# Altium footprint library 杂项库.PcbLib: 585 footprints (part 9 of 37)
Each footprint in its own frame and in the unit in brackets; x right, y up, seen from the top. Pads: shape width x height; smd on the part's side, far side on the other; paste and mask are expansions set on the pad; w line width, h text height; cw(c..) or ccw(c..) is an arc to the next point about the centre after c.
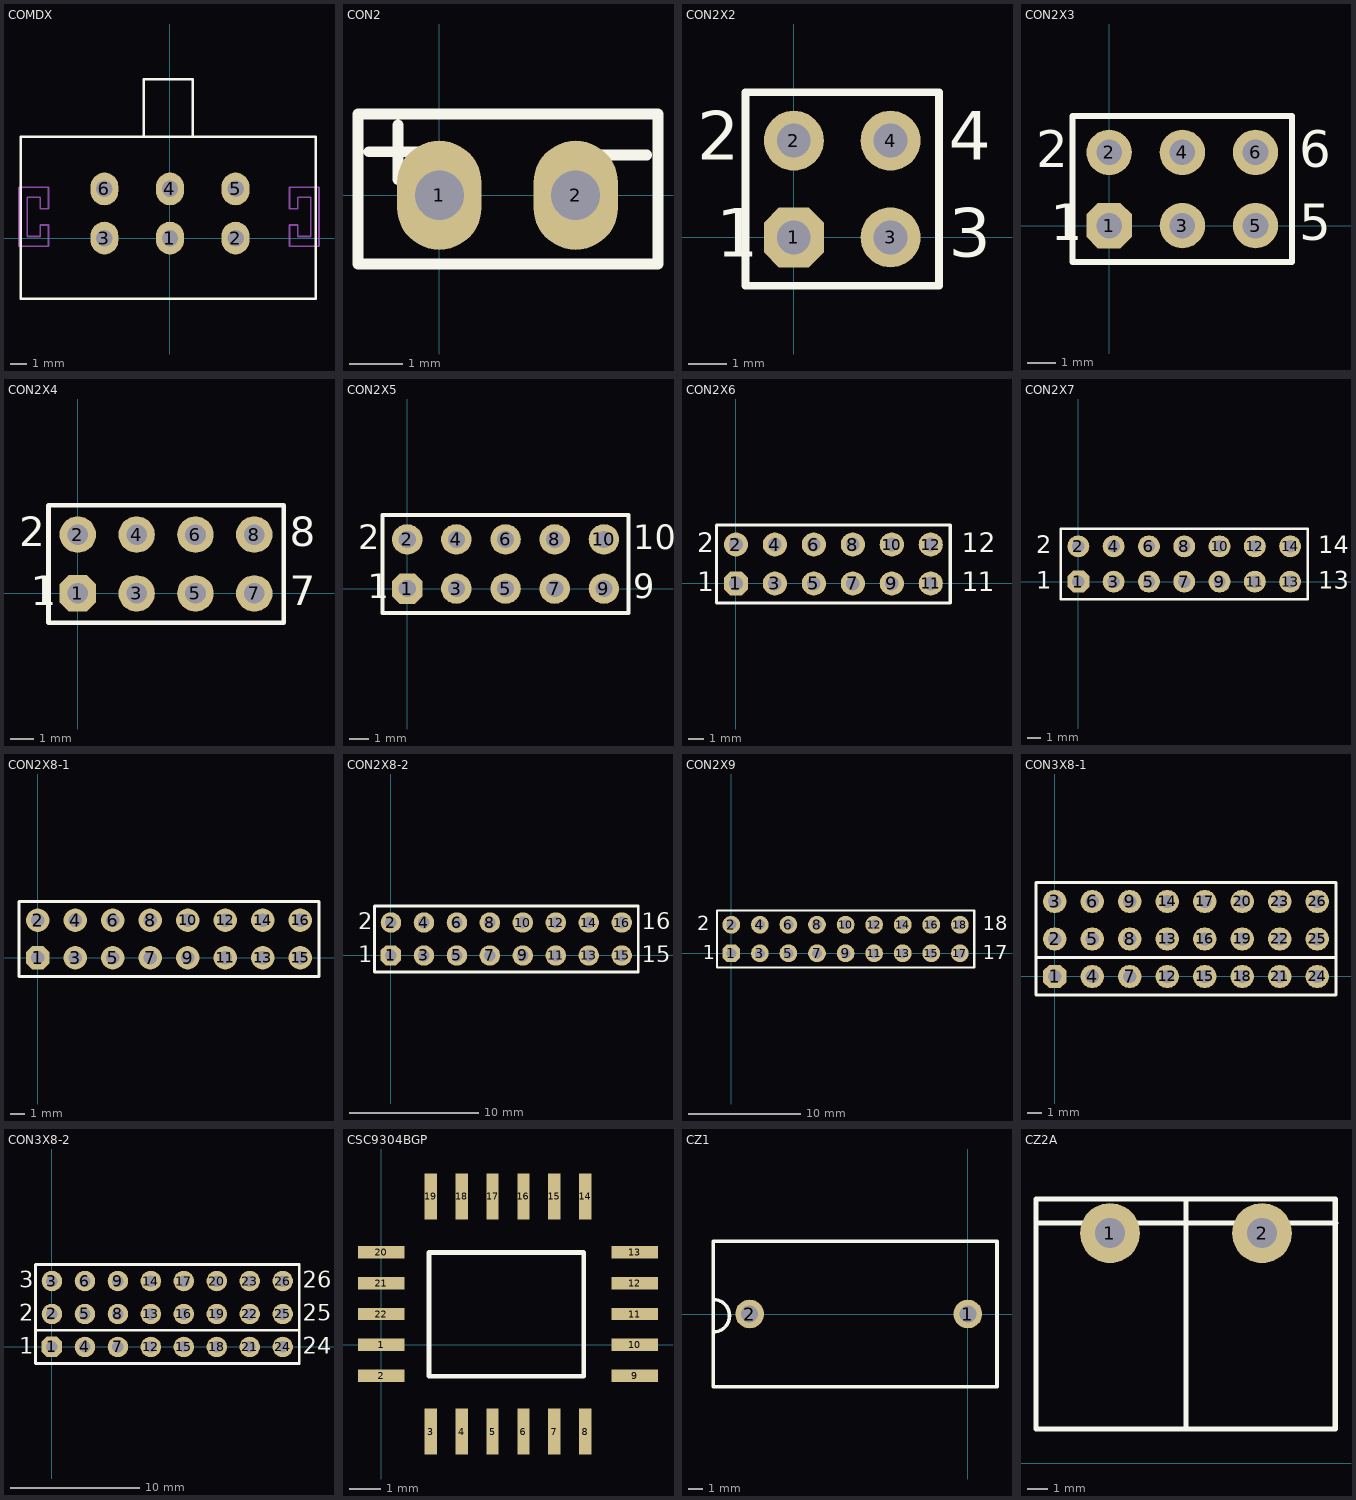
[diagram p8: the footprints below, top view; thin cyan lines are the x and y axes]

## COMDX [mm]
pads (6):
  oval 1.7x2 hole 1: 1(0,0) 2(4,0) 3(-4,0) 4(0,3) 5(4,3) 6(-4,3)
Top Overlay:
  lines w0.15: -1.61,6.196 -1.61,9.696 1.39,9.696 1.39,6.196 ; -9.11,-3.704 8.89,-3.704 8.89,6.196 -9.11,6.196 -9.11,-3.704
Mechanical 1:
  lines w0.1: -9.21,-0.504 -7.41,-0.504 -7.41,0.796 -7.91,0.796 -7.91,0.096 -8.71,0.096 -8.71,2.496 -7.91,2.496 -7.91,1.796 -7.41,1.796 -7.41,3.096 -9.21,3.096 -9.21,-0.504 ; 7.29,-0.504 9.09,-0.504 9.09,3.096 7.29,3.096 7.29,1.796 7.79,1.796 7.79,2.496 8.59,2.496 8.59,0.096 7.79,0.096 7.79,0.796 7.29,0.796 7.29,-0.504

## CON2 [mil]
pads (2):
  oval 62x80 hole 36: 1(0,0) 2(100,0)
Top Overlay:
  lines w7.87: -51.61,31.87 -11.61,31.87 ; -30.35,11.55 -30.35,51.55 ; 112.17,29.58 152.16,29.58 ; -59.65,-50.42 160.35,-50.42 160.35,59.58 -59.65,59.58 -59.65,-50.42

## CON2X2 [mil]
pads (4):
  oct 62x62 hole 35: 1(0,0)
  round 62 hole 35: 2(0,100) 3(100,0) 4(100,100)
Top Overlay:
  lines w8: -50,-50 150,-50 150,150 -50,150 -50,-50
  text "3" at 160,-20 h50
  text "4" at 160,80 h50
  text "2" at -100,80 h50
  text "1" at -80,-20 h50

## CON2X3 [mil]
pads (6):
  oct 62x62 hole 35: 1(0,0)
  round 62 hole 35: 2(0,100) 3(100,0) 4(100,100) 5(200,0) 6(200,100)
Top Overlay:
  lines w8: 58.33,-50 250,-50 ; 250,-50 -50,-50 -50,150 250,150 250,-50
  text "1" at -80,-20 h50
  text "2" at -100,80 h50
  text "5" at 260,-20 h50
  text "6" at 260,80 h50

## CON2X4 [mil]
pads (8):
  oct 62x62 hole 35: 1(0,0)
  round 62 hole 35: 2(0,100) 3(100,0) 4(100,100) 5(200,0) 6(200,100) 7(300,0) 8(300,100)
Top Overlay:
  lines w8: -50,-50 -50,150 350,150 350,-50 -50,-50
  text "8" at 360,80 h50
  text "7" at 360,-20 h50
  text "1" at -80,-20 h50
  text "2" at -100,80 h50

## CON2X5 [mil]
pads (10):
  oct 62x62 hole 35: 1(0,0)
  round 62 hole 35: 2(0,100) 3(100,0) 4(100,100) 5(200,0) 6(200,100) 7(300,0) 8(300,100) 9(400,0) 10(400,100)
Top Overlay:
  lines w8: -50,-50 -50,150 450,150 450,-50 -50,-50
  text "2" at -100,80 h50
  text "1" at -80,-20 h50
  text "9" at 460,-20 h50
  text "10" at 460,80 h50

## CON2X6 [mil]
pads (12):
  oct 62x62 hole 35: 1(0,0)
  round 62 hole 35: 2(0,100) 3(100,0) 4(100,100) 5(200,0) 6(200,100) 7(300,0) 8(300,100) 9(400,0) 10(400,100) 11(500,0) 12(500,100)
Top Overlay:
  lines w8: -50,-50 -50,150 550,150 550,-50 -50,-50
  text "2" at -100,80 h50
  text "1" at -100,-20 h50
  text "1" at 580,-20 h50
  text "1" at 620,-20 h50
  text "12" at 580,80 h50

## CON2X7 [mil]
pads (14):
  oct 62x62 hole 35: 1(0,0)
  round 62 hole 35: 2(0,100) 3(100,0) 4(100,100) 5(200,0) 6(200,100) 7(300,0) 8(300,100) 9(400,0) 10(400,100) 11(500,0) 12(500,100) 13(600,0) 14(600,100)
Top Overlay:
  lines w8: -50,-50 650,-50 650,150 -50,150 -50,-50
  text "13" at 680,-20 h50
  text "14" at 680,80 h50
  text "1" at -120,-20 h50
  text "2" at -120,80 h50

## CON2X8-1 [mil]
pads (16):
  oct 62x62 hole 35: 1(0,0)
  round 62 hole 35: 2(0,100) 3(100,0) 4(100,100) 5(200,0) 6(200,100) 7(300,0) 8(300,100) 9(400,0) 10(400,100) 11(500,0) 12(500,100) 13(600,0) 14(600,100) 15(700,0) 16(700,100)
Top Overlay:
  lines w8: -50,-50 750,-50 750,150 -50,150 -50,-50

## CON2X8-2 [mil]
pads (16):
  oct 62x62 hole 35: 1(0,0)
  round 62 hole 35: 2(0,100) 3(100,0) 4(100,100) 5(200,0) 6(200,100) 7(300,0) 8(300,100) 9(400,0) 10(400,100) 11(500,0) 12(500,100) 13(600,0) 14(600,100) 15(700,0) 16(700,100)
Top Overlay:
  lines w8: -50,-50 -50,150 750,150 750,-50 -50,-50
  text "2" at -100,80 h50
  text "15" at 760,-20 h50
  text "16" at 760,80 h50
  text "1" at -100,-20 h50

## CON2X9 [mil]
pads (18):
  oct 62x62 hole 35: 1(0,0)
  round 62 hole 35: 2(0,100) 3(100,0) 4(100,100) 5(200,0) 6(200,100) 7(300,0) 8(300,100) 9(400,0) 10(400,100) 11(500,0) 12(500,100) 13(600,0) 14(600,100) 15(700,0) 16(700,100) 17(800,0) 18(800,100)
Top Overlay:
  lines w8: -50,-50 -50,150 850,150 850,-50 -50,-50
  text "2" at -120,80 h50
  text "1" at -100,-20 h50
  text "17" at 880,-20 h50
  text "18" at 880,80 h50

## CON3X8-1 [mil]
pads (24):
  oct 62x62 hole 35: 1(0,0)
  round 62 hole 35: 2(0,100) 3(0,200) 4(100,0) 5(100,100) 6(100,200) 7(200,0) 8(200,100) 9(200,200) 12(300,0) 13(300,100) 14(300,200) 15(400,0) 16(400,100) 17(400,200) 18(500,0) 19(500,100) 20(500,200) 21(600,0) 22(600,100) 23(600,200) 24(700,0) 25(700,100) 26(700,200)
Top Overlay:
  lines w8: -50,51.18 750,51.18 ; -50,-50 -50,150 -50,250 750,250 750,150 750,-50 -50,-50

## CON3X8-2 [mil]
pads (24):
  oct 62x62 hole 35: 1(0,0)
  round 62 hole 35: 2(0,100) 3(0,200) 4(100,0) 5(100,100) 6(100,200) 7(200,0) 8(200,100) 9(200,200) 12(300,0) 13(300,100) 14(300,200) 15(400,0) 16(400,100) 17(400,200) 18(500,0) 19(500,100) 20(500,200) 21(600,0) 22(600,100) 23(600,200) 24(700,0) 25(700,100) 26(700,200)
Top Overlay:
  lines w8: -50,51.18 750,51.18 ; -50,-50 -50,150 -50,250 750,250 750,150 750,-50 -50,-50
  text "2" at -100,80 h50
  text "1" at -100,-20 h50
  text "24" at 760,-20 h50
  text "25" at 760,80 h50
  text "3" at -100,180 h50
  text "26" at 760,180 h50

## CSC9304BGP [mm]
pads (22):
  rect 1.5x0.4 all layers, no hole: 1(0,0) 2(0,-1) 9(8.2,-1) 10(8.2,0) 11(8.2,1) 12(8.2,2) 13(8.2,3) 20(0,3) 21(0,2) 22(0,1)
  rect 0.4x1.5 all layers, no hole: 3(1.6,-2.8) 4(2.6,-2.8) 5(3.6,-2.8) 6(4.6,-2.8) 7(5.6,-2.8) 8(6.6,-2.8) 14(6.6,4.8) 15(5.6,4.8) 16(4.6,4.8) 17(3.6,4.8) 18(2.6,4.8) 19(1.6,4.8)
Top Overlay:
  lines w0.15: 1.545,-1.011 6.545,-1.011 6.545,2.989 1.545,2.989 1.545,-1.011

## CZ1 [mm]
pads (2):
  round 2 hole 1.2: 1(0,0) 2(-15.24,0)
Top Overlay:
  lines w0.254: -17.78,-1.256 ccw(c-17.78,-0.12) -17.78,1.016 ; -17.78,-5.08 -17.78,5.08 2.032,5.08 2.032,-5.08 -17.78,-5.08

## CZ2A [mm]
pads (2):
  round 3 hole 1.5: 1(4.6,11.5) 2(12.2,11.5)
Top Overlay:
  lines w0.254: 0.9,12 15.9,12 ; 8.4,1.7 8.406,13.208 ; 0.9,1.7 0.9,13.208 15.864,13.208 15.864,1.7 0.9,1.7